# Altium footprint library 232转CAN.PcbLib: 4 footprints
Each footprint in its own frame and in the unit in brackets; x right, y up, seen from the top. Pads: shape width x height; smd on the part's side, far side on the other; paste and mask are expansions set on the pad; w line width, h text height; cw(c..) or ccw(c..) is an arc to the next point about the centre after c.
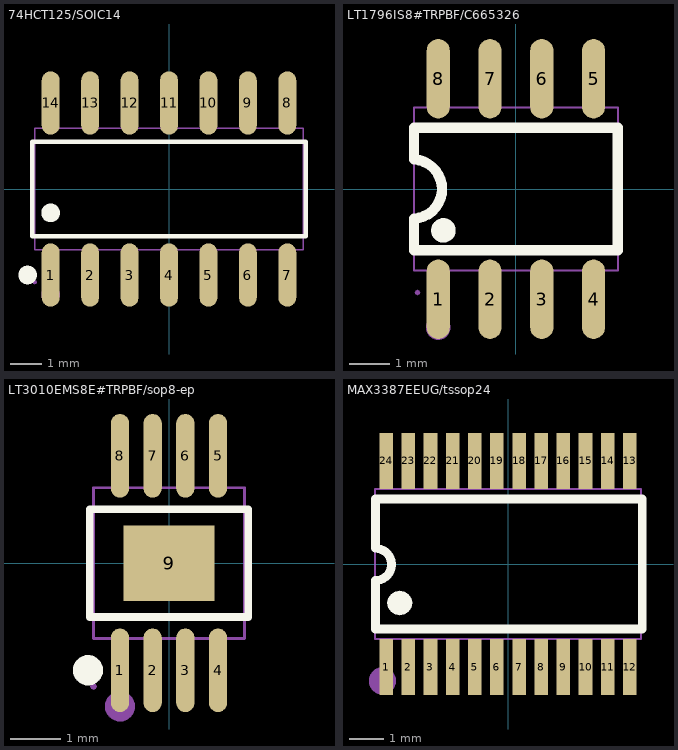
[diagram p0: the footprints below, top view; thin cyan lines are the x and y axes]

## 74HCT125/SOIC14 [mm]
pads (14):
  oval 0.574x2.038 smd: 1(-3.81,-2.769) 2(-2.54,-2.769) 3(-1.27,-2.769) 4(0,-2.769) 5(1.27,-2.769) 6(2.54,-2.769) 7(3.81,-2.769) 8(3.81,2.769) 9(2.54,2.769) 10(1.27,2.769) 11(0,2.769) 12(-1.27,2.769) 13(-2.54,2.769) 14(-3.81,2.769)
Top Overlay:
  circle w0.3: c-4.549,-2.769 r0.15
  circle w0.3: c-3.81,-0.769 r0.15
  lines w0.152: -4.401,-1.521 4.401,-1.521 4.401,1.521 -4.401,1.521 -4.401,-1.521
Mechanical 6:
  circle w0.3: c-3.81,-3.4 r0.15
Mechanical 15:
  region: 3.605,2.175 3.605,1.94 4.015,1.94 4.015,2.175
  region: 3.605,3 3.605,2.165 4.015,2.165 4.015,3
  region: 2.335,2.175 2.335,1.94 2.745,1.94 2.745,2.175
  region: 2.335,3 2.335,2.165 2.745,2.165 2.745,3
  region: 1.065,2.175 1.065,1.94 1.475,1.94 1.475,2.175
  region: 1.065,3 1.065,2.165 1.475,2.165 1.475,3
  region: -0.205,2.175 -0.205,1.94 0.205,1.94 0.205,2.175
  region: -0.205,3 -0.205,2.165 0.205,2.165 0.205,3
  region: -1.475,2.175 -1.475,1.94 -1.065,1.94 -1.065,2.175
  region: -1.475,3 -1.475,2.165 -1.065,2.165 -1.065,3
  region: -2.745,2.175 -2.745,1.94 -2.335,1.94 -2.335,2.175
  region: -2.745,3 -2.745,2.165 -2.335,2.165 -2.335,3
  region: -4.015,2.175 -4.015,1.94 -3.605,1.94 -3.605,2.175
  region: -4.015,3 -4.015,2.165 -3.605,2.165 -3.605,3
  region: 3.605,-2.175 3.605,-1.94 4.015,-1.94 4.015,-2.175
  region: 3.605,-3 3.605,-2.165 4.015,-2.165 4.015,-3
  region: 2.335,-2.175 2.335,-1.94 2.745,-1.94 2.745,-2.175
  region: 2.335,-3 2.335,-2.165 2.745,-2.165 2.745,-3
  region: 1.065,-2.175 1.065,-1.94 1.475,-1.94 1.475,-2.175
  region: 1.065,-3 1.065,-2.165 1.475,-2.165 1.475,-3
  region: -0.205,-2.175 -0.205,-1.94 0.205,-1.94 0.205,-2.175
  region: -0.205,-3 -0.205,-2.165 0.205,-2.165 0.205,-3
  region: -1.475,-2.175 -1.475,-1.94 -1.065,-1.94 -1.065,-2.175
  region: -1.475,-3 -1.475,-2.165 -1.065,-2.165 -1.065,-3
  region: -2.745,-2.175 -2.745,-1.94 -2.335,-1.94 -2.335,-2.175
  region: -2.745,-3 -2.745,-2.165 -2.335,-2.165 -2.335,-3
  region: -4.015,-2.175 -4.015,-1.94 -3.605,-1.94 -3.605,-2.175
  region: -4.015,-3 -4.015,-2.165 -3.605,-2.165 -3.605,-3
  region: -4.261,-3 -4.279,-2.955 -4.325,-2.936 -4.371,-2.955 -4.389,-3 -4.371,-3.045 -4.325,-3.064 -4.279,-3.045
  lines w0.051: -4.325,-1.95 4.325,-1.95 4.325,1.95 -4.325,1.95 -4.325,-1.95

## LT1796IS8#TRPBF/C665326 [mil]
pads (8):
  oval 22.38x76.78 smd: 1(-75,-106.5) 2(-25,-106.5) 3(25,-106.5) 4(75,-106.5) 5(75,106.5) 6(25,106.5) 7(-25,106.5) 8(-75,106.5)
Top Overlay:
  circle w11.81: c-70,-40 r5.91
  lines w10: -98.43,-28.61 ccw(c-99.99,0) -98.23,28.59 ; -98.42,-28.61 -98.42,-59.05 98.42,-59.05 98.42,59.05 -98.42,59.05 -98.42,28.59
Mechanical 6:
  circle w11.81: c-75,-133.86 r5.91
Mechanical 15:
  region: -92.44,-100 -93.19,-98.19 -95,-97.44 -96.81,-98.19 -97.56,-100 -96.81,-101.81 -95,-102.56 -93.19,-101.81
  region: 66.93,76.38 66.93,85.63 83.07,85.63 83.07,76.38
  region: 66.93,85.24 66.93,118.11 83.07,118.11 83.07,85.24
  region: 16.93,76.38 16.93,85.63 33.07,85.63 33.07,76.38
  region: 16.93,85.24 16.93,118.11 33.07,118.11 33.07,85.24
  region: -33.07,76.38 -33.07,85.63 -16.93,85.63 -16.93,76.38
  region: -33.07,85.24 -33.07,118.11 -16.93,118.11 -16.93,85.24
  region: -83.07,76.38 -83.07,85.63 -66.93,85.63 -66.93,76.38
  region: -83.07,85.24 -83.07,118.11 -66.93,118.11 -66.93,85.24
  region: 66.93,-85.63 66.93,-76.38 83.07,-76.38 83.07,-85.63
  region: 66.93,-118.11 66.93,-85.24 83.07,-85.24 83.07,-118.11
  region: 16.93,-85.63 16.93,-76.38 33.07,-76.38 33.07,-85.63
  region: 16.93,-118.11 16.93,-85.24 33.07,-85.24 33.07,-118.11
  region: -33.07,-85.63 -33.07,-76.38 -16.93,-76.38 -16.93,-85.63
  region: -33.07,-118.11 -33.07,-85.24 -16.93,-85.24 -16.93,-118.11
  region: -83.07,-85.63 -83.07,-76.38 -66.93,-76.38 -66.93,-85.63
  region: -83.07,-118.11 -83.07,-85.24 -66.93,-85.24 -66.93,-118.11
  lines w2: -98.42,-78.74 -98.42,78.74 98.42,78.74 98.42,-78.74 -98.42,-78.74

## LT3010EMS8E#TRPBF/sop8-ep [mm]
pads (9):
  oval 0.364x1.662 smd: 1(-0.975,-2.131) 2(-0.325,-2.131) 3(0.325,-2.131) 4(0.975,-2.131) 5(0.975,2.131) 6(0.325,2.131) 7(-0.325,2.131) 8(-0.975,2.131)
  rect 1.8x1.5 smd: 9(0,0)
Top Overlay:
  circle w0.3: c-1.609,-2.131 r0.15
  lines w0.152: -1.576,-1.071 1.576,-1.071 1.576,1.071 -1.576,1.071 -1.576,-1.071
Mechanical 6:
  circle w0.3: c-0.975,-2.85 r0.15
Mechanical 15:
  region: -0.88,0.712 0.88,0.712 0.88,-0.712 -0.88,-0.712
  region: 0.817,1.91 0.817,1.49 1.133,1.49 1.133,1.91
  region: 0.817,2.45 0.817,1.9 1.133,1.9 1.133,2.45
  region: 0.167,1.91 0.167,1.49 0.482,1.49 0.482,1.91
  region: 0.167,2.45 0.167,1.9 0.482,1.9 0.482,2.45
  region: -0.482,1.91 -0.482,1.49 -0.167,1.49 -0.167,1.91
  region: -0.482,2.45 -0.482,1.9 -0.167,1.9 -0.167,2.45
  region: -1.133,1.91 -1.133,1.49 -0.817,1.49 -0.817,1.91
  region: -1.133,2.45 -1.133,1.9 -0.817,1.9 -0.817,2.45
  region: 0.817,-1.91 0.817,-1.49 1.133,-1.49 1.133,-1.91
  region: 0.817,-2.45 0.817,-1.9 1.133,-1.9 1.133,-2.45
  region: 0.167,-1.91 0.167,-1.49 0.482,-1.49 0.482,-1.91
  region: 0.167,-2.45 0.167,-1.9 0.482,-1.9 0.482,-2.45
  region: -0.482,-1.91 -0.482,-1.49 -0.167,-1.49 -0.167,-1.91
  region: -0.482,-2.45 -0.482,-1.9 -0.167,-1.9 -0.167,-2.45
  region: -1.133,-1.91 -1.133,-1.49 -0.817,-1.49 -0.817,-1.91
  region: -1.133,-2.45 -1.133,-1.9 -0.817,-1.9 -0.817,-2.45
  region: -1.435,-2.45 -1.454,-2.405 -1.5,-2.386 -1.546,-2.405 -1.564,-2.45 -1.546,-2.495 -1.5,-2.514 -1.454,-2.495
  lines w0.051: -1.5,-1.5 1.5,-1.5 1.5,1.5 -1.5,1.5 -1.5,-1.5

## MAX3387EEUG/tssop24 [mm]
pads (24):
  rect 0.4x1.65 smd: 1(-3.575,-3.023) 2(-2.925,-3.023) 3(-2.275,-3.023) 4(-1.625,-3.023) 5(-0.975,-3.023) 6(-0.325,-3.023) 7(0.325,-3.023) 8(0.975,-3.023) 9(1.625,-3.023) 10(2.275,-3.023) 11(2.925,-3.023) 12(3.575,-3.023) 13(3.575,3.023) 14(2.925,3.023) 15(2.275,3.023) 16(1.625,3.023) 17(0.975,3.023) 18(0.325,3.023) 19(-0.325,3.023) 20(-0.975,3.023) 21(-1.625,3.023) 22(-2.275,3.023) 23(-2.925,3.023) 24(-3.575,3.023)
Top Overlay:
  region: -3.536,-1.143 -3.508,-1.005 -3.43,-0.888 -3.313,-0.81 -3.175,-0.782 -3.037,-0.81 -2.92,-0.888 -2.842,-1.005 -2.814,-1.143 -2.842,-1.281 -2.92,-1.398 -3.037,-1.476 -3.175,-1.504 -3.313,-1.476 -3.43,-1.398 -3.508,-1.281
  lines w0.254: -3.886,0.457 cw(c-3.886,-0.013) -3.886,-0.483 -3.886,-1.753 -3.886,-1.905 3.937,-1.905 3.937,1.905 -3.886,1.905 -3.886,1.753 -3.886,0.483
Mechanical 6:
  circle w0.4: c-3.683,-3.429 r0.2
Mechanical 15:
  drawing of 53 lines, arcs and shapes, not listed